# Altium footprint library naveedk_footprints.pcblib: 30 footprints (part 1 of 2)
Each footprint in its own frame and in the unit in brackets; x right, y up, seen from the top. Pads: shape width x height; smd on the part's side, far side on the other; paste and mask are expansions set on the pad; w line width, h text height; cw(c..) or ccw(c..) is an arc to the next point about the centre after c.
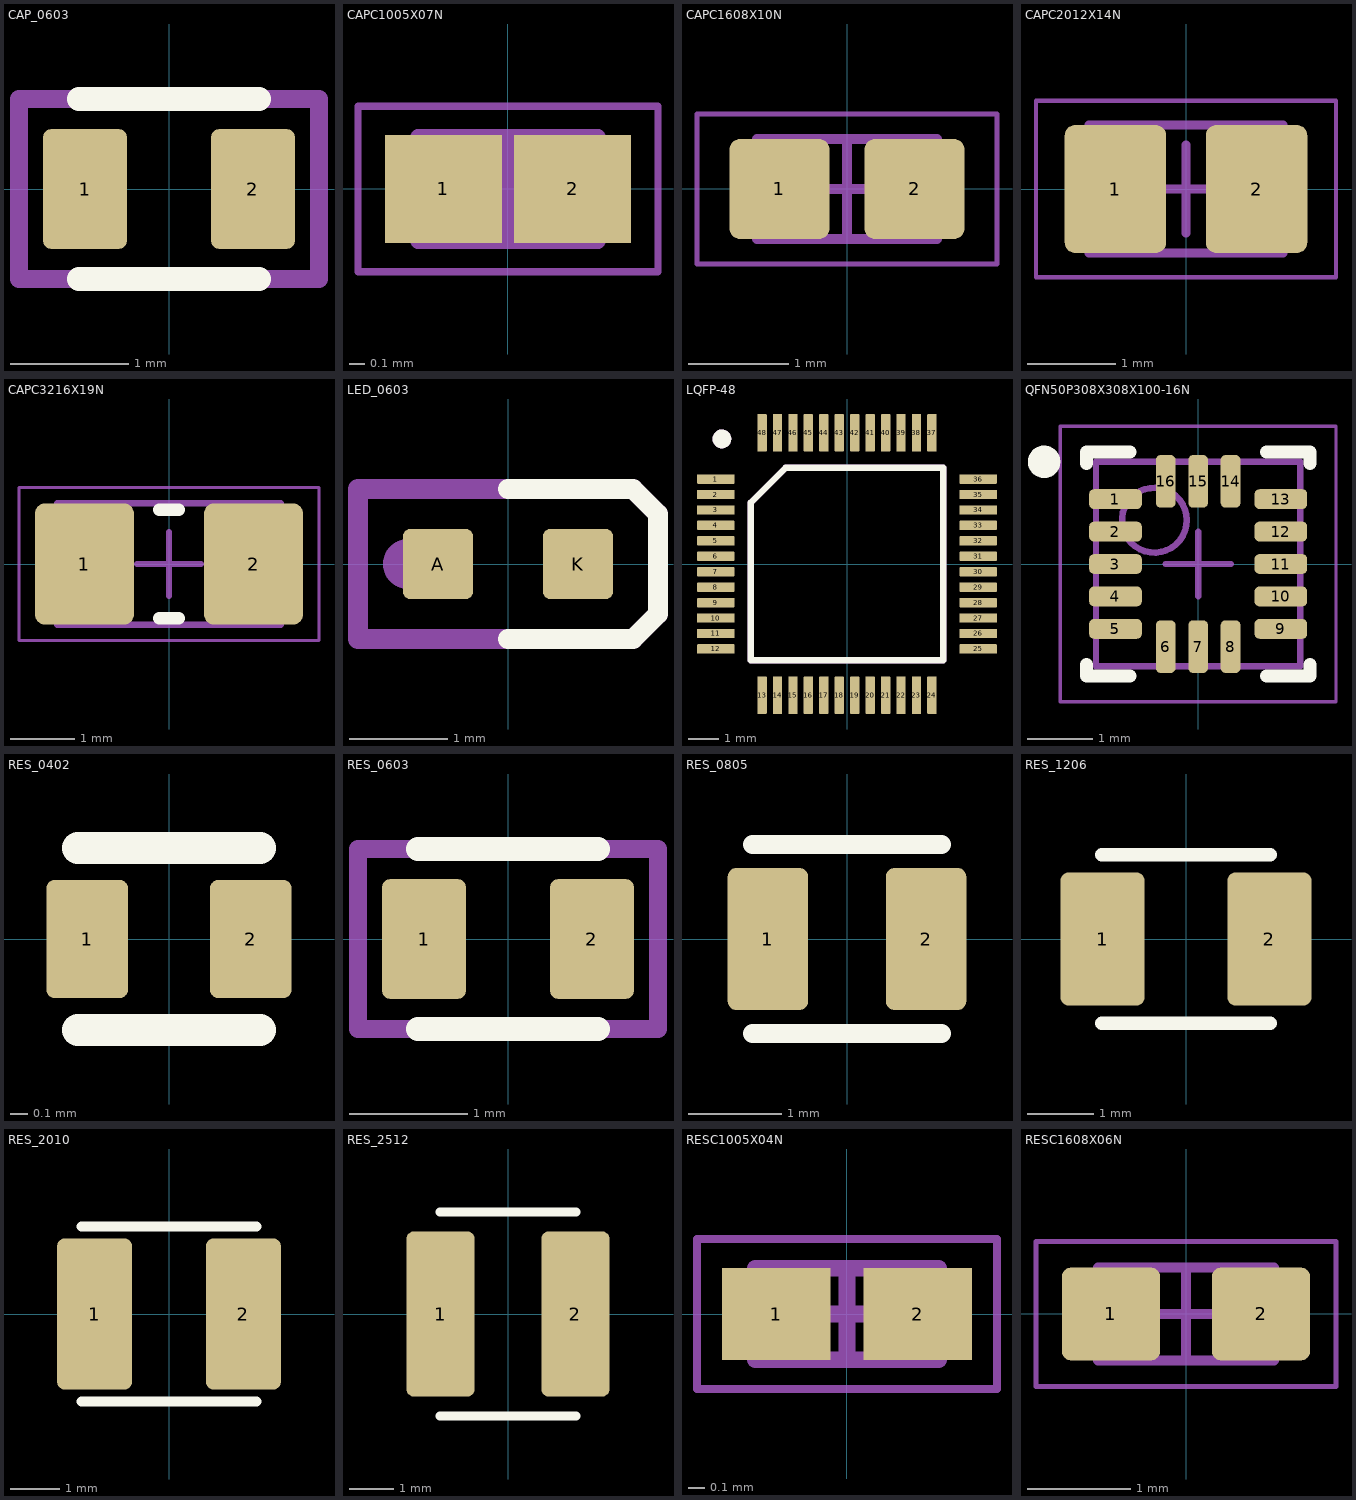
[diagram p0: the footprints below, top view; thin cyan lines are the x and y axes]

## CAP_0603 [mil]
pads (2):
  rrect20% 28x40 smd mask+3: 1(-28,0) 2(28,0)
Top Overlay:
  lines w8: -30,-30 30,-30 ; -30,30 30,30
Top Assembly:
  lines w6: -50,-30 50,-30 50,30 -50,30 -50,-30
  text "'.Designator'" at -283.24,-20.83 h50
3D body "CAP_0603.step": height 32, standoff 0.5, extent -31.5,-17.43 31.5,18

## CAPC1005X07N [mm] "Chip Capacitor, 2-Leads, Body 1.00x0.50mm, IPC Medium Density"
height 0.7
pads (2):
  rect 0.78x0.72 smd: 1(-0.43,0) 2(0.43,0)
Mechanical 13:
  lines w0.1: -0.6,-0.35 -0.6,0.35 0.6,0.35 0.6,-0.35 -0.6,-0.35
Mechanical 15:
  lines w0.05: -1,-0.55 -1,0.55 1,0.55 1,-0.55 -1,-0.55
  lines w0.1: -0.35,0 0.35,0 ; 0,-0.35 0,0.35
3D body "CAPC1005X07N.step": height 0.7, standoff 0, extent -0.6,-0.35 0.6,0.35

## CAPC1608X10N [mm] "Chip Capacitor, 2-Leads, Body 1.60x0.80mm, IPC Medium Density"
height 1
pads (2):
  rrect20% 1x1 smd: 1(-0.675,0) 2(0.675,0)
Mechanical 13:
  lines w0.1: -0.9,-0.5 -0.9,0.5 0.9,0.5 0.9,-0.5 -0.9,-0.5
Mechanical 15:
  lines w0.05: -1.5,-0.75 -1.5,0.75 1.5,0.75 1.5,-0.75 -1.5,-0.75
  lines w0.1: -0.5,0 0.5,0 ; 0,-0.5 0,0.5
3D body "CAPC1608X10N.step": height 1, standoff 0, extent -0.9,-0.5 0.9,0.5

## CAPC2012X14N [mm] "Chip Capacitor, 2-Leads, Body 2.00x1.25mm, IPC Medium Density"
height 1.45
pads (2):
  rrect20% 1.15x1.45 smd: 1(-0.8,0) 2(0.8,0)
Mechanical 13:
  lines w0.1: -1.1,-0.725 -1.1,0.725 1.1,0.725 1.1,-0.725 -1.1,-0.725
Mechanical 15:
  lines w0.05: -1.7,-1 -1.7,1 1.7,1 1.7,-1 -1.7,-1
  lines w0.1: -0.5,0 0.5,0 ; 0,-0.5 0,0.5
3D body "CAPC2012X14N.step": height 1.45, standoff 0, extent -1.1,-0.725 1.1,0.725

## CAPC3216X19N [mm] "Chip Capacitor, 2-Leads, Body 3.20x1.60mm, IPC Medium Density"
height 1.9
pads (2):
  rrect20% 1.55x1.9 smd: 1(-1.325,0) 2(1.325,0)
Top Overlay:
  lines w0.2: -0.15,-0.85 0.15,-0.85 ; -0.15,0.85 0.15,0.85
Mechanical 13:
  lines w0.1: -1.75,-0.95 1.75,-0.95 1.75,0.95 -1.75,0.95 -1.75,-0.95
Mechanical 15:
  lines w0.05: -2.35,-1.2 2.35,-1.2 2.35,1.2 -2.35,1.2 -2.35,-1.2
  lines w0.1: -0.5,0 0.5,0 ; 0,-0.5 0,0.5
3D body "CAPC3216X19N.step": height 1.9, standoff 0, extent -1.75,-0.95 1.75,0.95

## LED_0603 [mil]
pads (2):
  rrect20% 28x28 smd mask+3: A(-28,0) K(28,0)
Top Overlay:
  lines w8: 0,-30 50,-30 60,-20 60,20 50,30 0,30
Top Assembly:
  circle w10: c-40,0 r5
  lines w8: -60,-30 50,-30 60,-20 60,20 50,30 -60,30 -60,-30
  text "'.Designator'" at -263.24,-20.83 h50

## LQFP-48 [mil]
pads (48):
  rrect20% 48x12 smd mask+2: 1(-167.88,108.62) 2(-167.88,88.88) 3(-167.88,69.12) 4(-167.88,49.38) 5(-167.88,29.62) 6(-167.88,9.88) 7(-167.88,-9.88) 8(-167.88,-29.62) 9(-167.88,-49.38) 10(-167.88,-69.12) 11(-167.88,-88.88) 12(-167.88,-108.62) 25(167.88,-108.62) 26(167.88,-88.88) 27(167.88,-69.12) 28(167.88,-49.38) 29(167.88,-29.62) 30(167.88,-9.88) 31(167.88,9.88) 32(167.88,29.62) 33(167.88,49.38) 34(167.88,69.12) 35(167.88,88.88) 36(167.88,108.62)
  rrect20% 12x48 smd mask+2: 13(-108.62,-167.88) 14(-88.88,-167.88) 15(-69.12,-167.88) 16(-49.38,-167.88) 17(-29.62,-167.88) 18(-9.88,-167.88) 19(9.88,-167.88) 20(29.62,-167.88) 21(49.38,-167.88) 22(69.12,-167.88) 23(88.88,-167.88) 24(108.62,-167.88) 37(108.62,167.88) 38(88.88,167.88) 39(69.12,167.88) 40(49.38,167.88) 41(29.62,167.88) 42(9.88,167.88) 43(-9.88,167.88) 44(-29.62,167.88) 45(-49.38,167.88) 46(-69.12,167.88) 47(-88.88,167.88) 48(-108.62,167.88)
Top Overlay:
  circle w12: c-160,160 r6
  lines w8: -123.24,-123.24 123.24,-123.24 123.24,123.24 -78.61,123.24 -123.24,78.61 -123.24,-123.24
Top Assembly:
  circle w12: c-160,160 r6
  lines w8: -123.24,-123.24 123.24,-123.24 123.24,123.24 -78.61,123.24 -123.24,78.61 -123.24,-123.24
  text "'.Designator'" at -283.24,-20.83 h50
3D body "LQFP-48.step": height 63.11, standoff 0, extent -180.98,-180.98 180.98,180.98

## QFN50P308X308X100-16N [mm] "QFN, 16-Leads, Body 3.08x3.08mm, Pitch 0.50mm, IPC Medium Density"
height 1
pads (16):
  rrect50% 0.813x0.305 smd: 1(-1.275,1) 2(-1.275,0.5) 3(-1.275,0) 4(-1.275,-0.5) 5(-1.275,-1) 9(1.275,-1) 10(1.275,-0.5) 11(1.275,0) 12(1.275,0.5) 13(1.275,1)
  rrect50% 0.305x0.813 smd: 6(-0.5,-1.275) 7(0,-1.275) 8(0.5,-1.275) 14(0.5,1.275) 15(0,1.275) 16(-0.5,1.275)
Top Overlay:
  circle w0.25: c-2.375,1.575 r0.125
  lines w0.2: -1.725,-1.552 -1.725,-1.725 -1.053,-1.725 ; -1.725,1.553 -1.725,1.725 -1.053,1.725 ; 1.052,-1.725 1.725,-1.725 1.725,-1.552 ; 1.052,1.725 1.725,1.725 1.725,1.553
Mechanical 13:
  circle w0.1: c-0.675,0.675 r0.5
  lines w0.1: -1.575,-1.575 1.575,-1.575 1.575,1.575 -1.575,1.575 -1.575,-1.575
Mechanical 15:
  lines w0.05: -2.125,-2.125 2.125,-2.125 2.125,2.125 -2.125,2.125 -2.125,-2.125
  lines w0.1: -0.5,0 0.5,0 ; 0,-0.5 0,0.5
3D body "QFN50P308X308X100-16N.step": height 1, standoff 0, extent -1.625,-1.625 1.625,1.625

## RES_0402 [mil]
pads (2):
  rrect20% 18x26 smd paste+0 mask+3: 1(-18,0) 2(18,0)
Top Overlay:
  lines w7: -20,-20 20,-20 ; -20,20 20,20

## RES_0603 [mil]
pads (2):
  rrect20% 28x40 smd mask+3: 1(-28,0) 2(28,0)
Top Overlay:
  lines w8: -30,-30 30,-30 ; -30,30 30,30
Top Assembly:
  lines w6: -50,-30 50,-30 50,30 -50,30 -50,-30
  text "'.Designator'" at -283.24,-20.83 h50
3D body "RES_0603.step": height 22.15, standoff 0.5, extent -31.5,-15.75 31.5,15.75

## RES_0805 [mil]
pads (2):
  rrect20% 34x60 smd mask+3: 1(-33.5,0) 2(33.5,0)
Top Overlay:
  lines w8: -40,-40 40,-40 ; -40,40 40,40

## RES_1206 [mil]
pads (2):
  rrect20% 50x79 smd mask+3: 1(-49.5,0) 2(49.5,0)
Top Overlay:
  lines w8: -50,-50 50,-50 ; -50,50 50,50

## RES_2010 [mil]
pads (2):
  rrect20% 60x121 smd mask+3: 1(-59.5,0) 2(59.5,0)
Top Overlay:
  lines w8: -70,-70 70,-70 ; -70,70 70,70

## RES_2512 [mil]
pads (2):
  rrect20% 60x146 smd mask+3: 1(-59.5,0) 2(59.5,0)
Top Overlay:
  lines w8: -60,-90 60,-90 ; -60,90 60,90

## RESC1005X04N [mm] "Chip Resistor, 2-Leads, Body 1.00x0.50mm, IPC Medium Density"
height 0.4
pads (2):
  rect 0.65x0.55 smd: 1(-0.425,0) 2(0.425,0)
Mechanical 13:
  lines w0.1: -0.55,-0.275 0.55,-0.275 0.55,0.275 -0.55,0.275 -0.55,-0.275
Mechanical 15:
  lines w0.05: -0.9,-0.45 0.9,-0.45 0.9,0.45 -0.9,0.45 -0.9,-0.45
  lines w0.1: -0.275,0 0.275,0 ; 0,-0.275 0,0.275
3D body "RESC1005X04N.step": height 0.4, standoff 0, extent -0.55,-0.275 0.55,0.275

## RESC1608X06N [mm] "Chip Resistor, 2-Leads, Body 1.60x0.80mm, IPC Medium Density"
height 0.55
pads (2):
  rrect20% 0.95x0.9 smd: 1(-0.725,0) 2(0.725,0)
Mechanical 13:
  lines w0.1: -0.85,-0.45 -0.85,0.45 0.85,0.45 0.85,-0.45 -0.85,-0.45
Mechanical 15:
  lines w0.05: -1.45,-0.7 -1.45,0.7 1.45,0.7 1.45,-0.7 -1.45,-0.7
  lines w0.1: -0.45,0 0.45,0 ; 0,-0.45 0,0.45
3D body "RESC1608X06N.step": height 0.55, standoff 0, extent -0.85,-0.45 0.85,0.45